# Altium schematic symbol library GENERIC_SWITCH_SPST_NO_MP.SchLib: 1 symbol
Pins are listed as number, name and electrical type; pins without a type are passive.

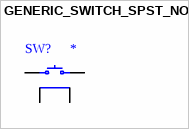
[diagram p0: symbol GENERIC_SWITCH_SPST_NO_MP]

## GENERIC_SWITCH_SPST_NO_MP
designator SW?
pins: 1, 2, S1, S2